# Altium schematic symbol library 95009-2667.Schlib: 1 symbol
Pins are listed as number, name and electrical type; pins without a type are passive.

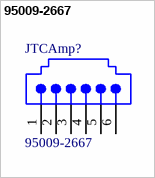
[diagram p0: symbol 95009-2667]

## 95009-2667
designator JTCAmp?
RJ12 Right Angle, Standard Profile, Flush Mount PCB Jack
pins: 1, 2, 3, 4, 5, 6